# EAGLE library part CREE_MC-E (library LED)
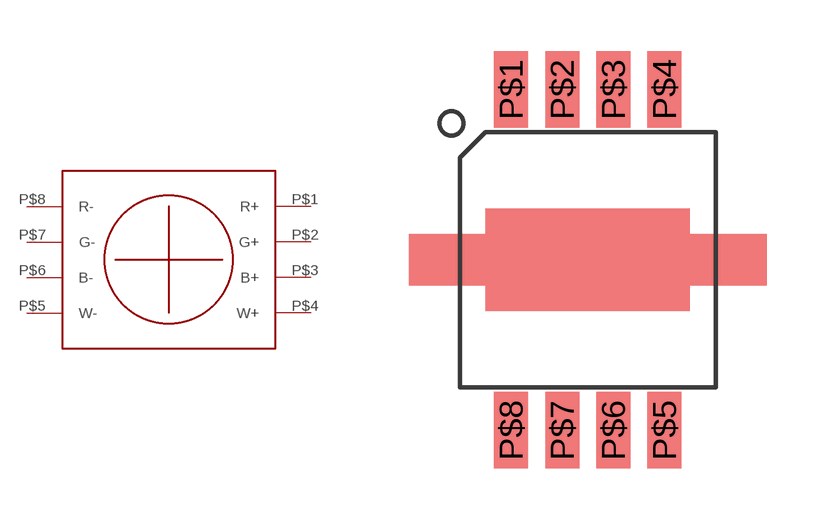
[diagram p0: symbol with the pads of CREE_MC-E; footprint CREE_MC-E]

Designator prefix -

## CREE_MC-E  [CREE_MC-E]
P$1  R+
P$2  G+
P$3  B+
P$4  W+
P$5  W-
P$6  B-
P$7  G-
P$8  R-

## Footprint CREE_MC-E (pad centres in mm)
smd 1 x 2.25: P$1 -2.25,5; P$2 -0.75,5; P$3 0.75,5; P$4 2.25,5; P$5 2.25,-5; P$6 0.75,-5; P$7 -0.75,-5; P$8 -2.25,-5